# Altium footprint library BSPD_PcbLib.PcbLib: 22 footprints (part 1 of 2)
Each footprint in its own frame and in the unit in brackets; x right, y up, seen from the top. Pads: shape width x height; smd on the part's side, far side on the other; paste and mask are expansions set on the pad; w line width, h text height; cw(c..) or ccw(c..) is an arc to the next point about the centre after c.
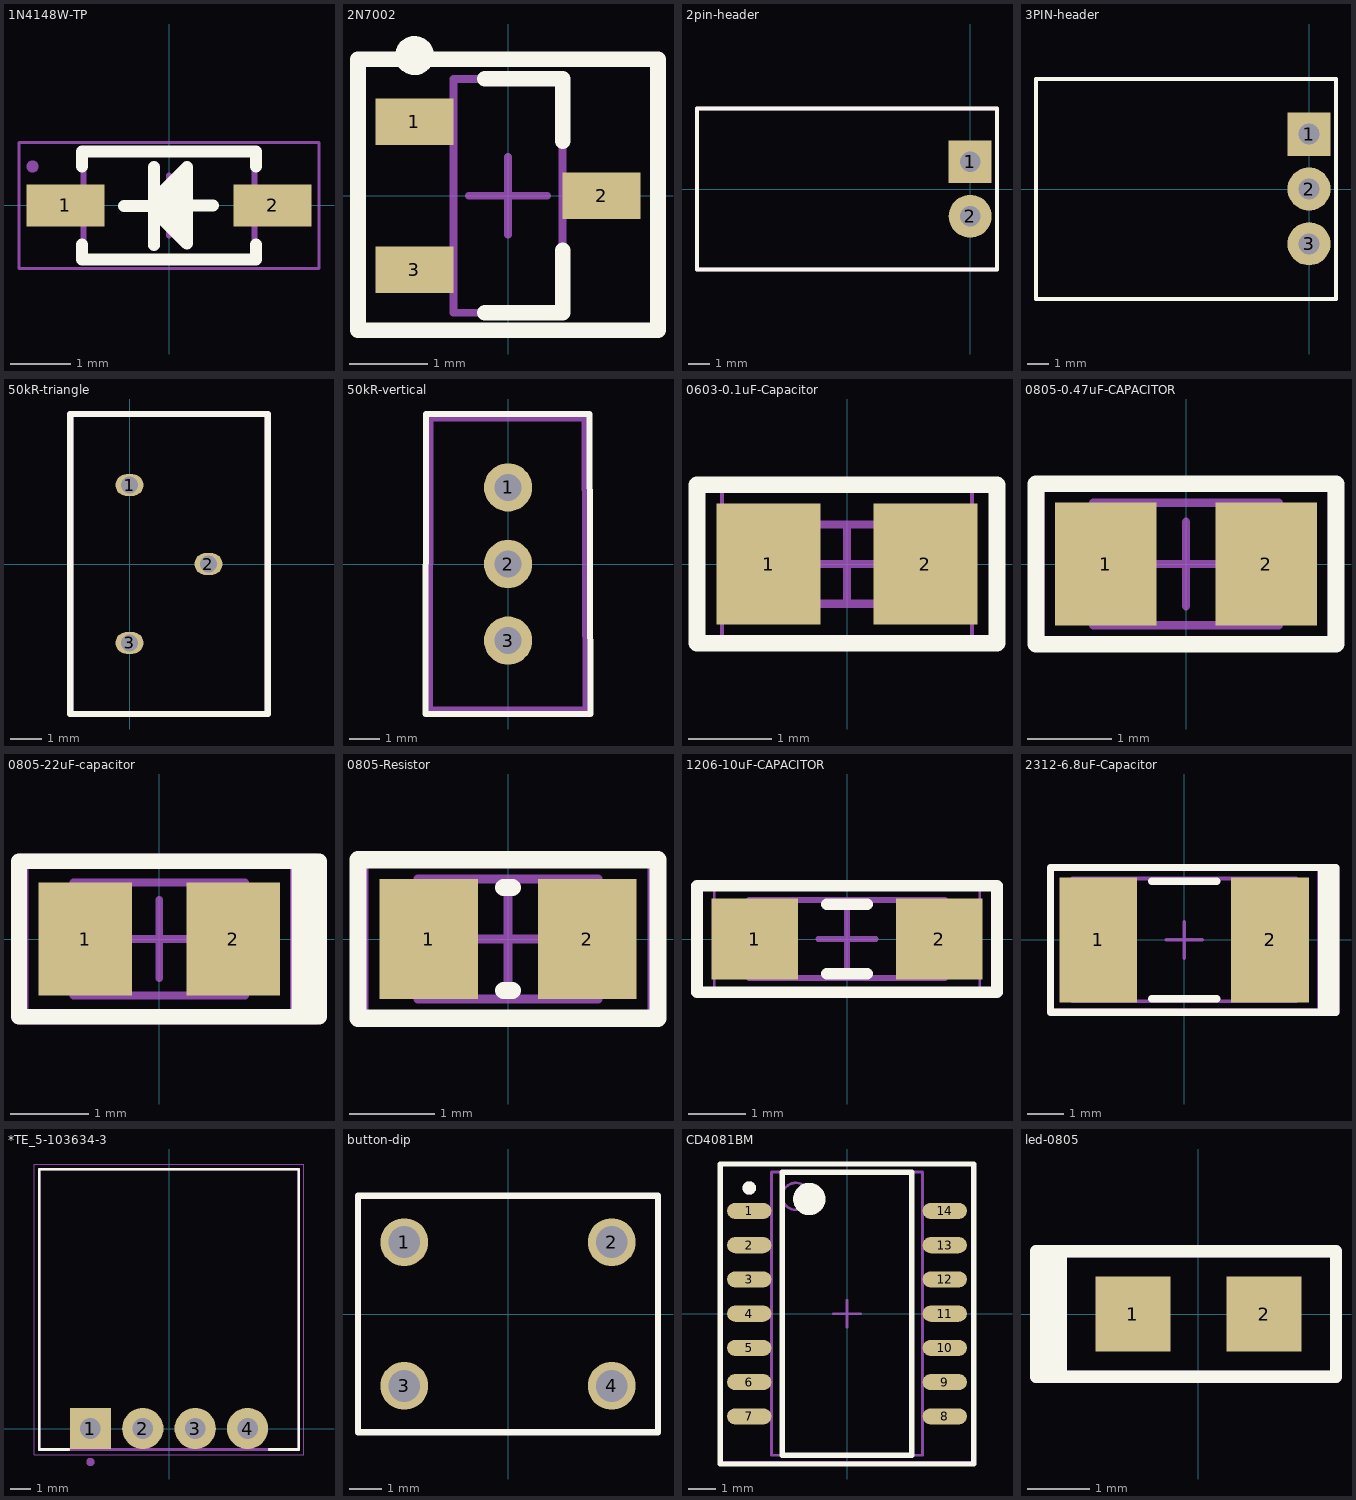
[diagram p0: the footprints below, top view; thin cyan lines are the x and y axes]

## 1N4148W-TP [mm] "SODFL, 2-Leads, Body 1.60x4.18mm, IPC Medium Density"
height 1.35
pads (2):
  rect 1.3x0.7 smd: 1(-1.725,0) 2(1.725,0)
Top Overlay:
  region: -0.4,1.6
  region: 0.3,-0.637 -0.25,-0.088 -0.25,0.088 0.3,0.638
  lines w0.2: -1.45,-0.65 -1.45,-0.9 1.45,-0.9 1.45,-0.65 ; -1.45,0.65 -1.45,0.9 1.45,0.9 1.45,0.65 ; -0.75,-0.012 -0.25,-0.012 ; -0.25,-0.663 -0.25,0.638 ; 0.3,0 0.737,0 ; -0.25,-0.012 -0.25,0.088 0.3,0.638 0.3,-0.637 -0.25,-0.088 -0.25,-0.012
Assembly Top:
  lines w0.1: -1.425,-0.9 1.425,-0.9 1.425,0.9 -1.425,0.9 -1.425,-0.9
Courtyard Top:
  lines w0.05: -2.5,-1.05 2.5,-1.05 2.5,1.05 -2.5,1.05 -2.5,-1.05
  lines w0.1: -0.5,0 0.5,0 ; 0,-0.5 0,0.5
Mechanical 29 (Mech29):
  circle w0.1: c-2.275,0.65 r0.05
  lines w0.05: -2.5,-1.05 -2.5,1.05 2.5,1.05 2.5,-1.05 -2.5,-1.05
  text "'.Designator'" at -2.413,-0.381 h0.7
3D body "1N4148W-TP.step": height 1.35, standoff 0, extent -2.087,-0.9 2.087,0.9

## 2N7002 [mm] "SOT23, 3-Leads, Body 2.90x2.45mm, Pitch 0.95mm, IPC Medium Density"
height 1.1
pads (3):
  rect 1x0.6 smd: 1(-1.2,0.95) 2(1.2,0) 3(-1.2,-0.95)
Top Overlay:
  circle w0.25: c-1.2,1.8 r0.125
  lines w0.2: -0.3,-1.5 0.7,-1.5 0.7,-0.7 ; -0.3,1.5 0.7,1.5 0.7,0.7 ; -1.925,-1.725 1.925,-1.725 1.925,1.75 -1.925,1.75 -1.925,-1.725
Assembly Top:
  lines w0.1: -0.7,-1.5 -0.7,1.5 0.7,1.5 0.7,-1.5 -0.7,-1.5
Courtyard Top:
  lines w0.05: -1.925,-1.75 -1.925,1.75 1.925,1.75 1.925,-1.75 -1.925,-1.75
  lines w0.1: -0.5,0 0.5,0 ; 0,-0.5 0,0.5
3D body "2N7002.step": height 1.1, standoff 0, extent -1.3,-1.5 1.3,1.5

## 2pin-header [mm]
pads (2):
  rect 2x2 hole 0.97: 1(0,1.27)
  round 2 hole 0.97: 2(0,-1.27)
Top Overlay:
  lines w0.2: -12.725,-3.75 1.25,-3.75 1.25,3.75 -12.725,3.75 -12.725,-3.75
Mechanical 29 (Mech29):
  lines w0.2: -12.725,-3.75 -12.725,3.75 1.25,3.75 1.25,-3.75 -12.725,-3.75
  text "'.Designator'" at -9,-0.3 h0.7
3D body "31507.stp": height 7, standoff -3.29, extent -12.625,-3.81 0.964,3.81

## 3PIN-header [mm]
pads (3):
  rect 2x2 hole 0.97: 1(0,2.54)
  round 2 hole 0.97: 2(0,0) 3(0,-2.54)
Top Overlay:
  lines w0.2: 1.25,5.075 1.25,3.575 1.25,-0.125 1.25,-3.125 1.25,-5.1 -12.65,-5.1 -12.65,5.1 1.25,5.1
Mechanical 29 (Mech29):
  lines w0.2: -12.65,-5.1 1.25,-5.1 1.25,-2.85 1.25,0.15 1.25,3.85 1.25,4.825 1.25,5.1 -12.65,5.1 -12.65,-5.1
  text "'.Designator'" at -9.7,-0.2 h0.7
3D body: height 4.44, standoff -0.38, extent -14.15,-3.05 -14.15,-3.05
3D body "31508.SLDPRT": height 7, standoff -3.29, extent -12.614,-5.03 0.975,5.13

## 50kR-triangle [mm]
pads (3):
  oval 0.9x0.7 hole 0.55: 1(0,2.54) 2(2.54,0) 3(0,-2.54)
Top Overlay:
  lines w0.2: -1.905,-4.826 -1.905,-4.445 -1.905,-2.54 -1.905,2.54 -1.905,4.445 -1.905,4.826 4.445,4.826 4.445,4.445 4.445,2.54 4.445,-2.54 4.445,-4.445 4.445,-4.826 -1.905,-4.826
Mechanical 29 (Mech29):
  lines w0.2: -1.905,-4.826 4.445,-4.826 4.445,-4.445 4.445,-2.54 4.445,2.54 4.445,4.445 4.445,4.826 -1.905,4.826 -1.905,4.445 -1.905,2.54 -1.905,-2.54 -1.905,-4.445 -1.905,-4.826
  text "'.Designator'" at -1.5,-0.2 h0.7
3D body: height 1.75, standoff 0, extent 0,0 0,0
3D body "3299Y.stp": height 11.06, standoff -6.72, extent -1.905,-4.762 4.2,4.762

## 50kR-vertical [mm]
pads (3):
  round 1.6 hole 0.9: 1(0,2.54) 2(0,0) 3(0,-2.54)
Top Overlay:
  lines w0.2: -2.732,-4.975 2.727,-4.975 2.701,4.975 -2.722,4.975 -2.732,-4.975
Mechanical 29 (Mech29):
  lines w0.2: -2.582,-4.826 -2.572,4.826 2.543,4.826 2.568,-4.826 -2.582,-4.826
  text "'.Designator'" at -2.25,-0.275 h0.7
3D body "3296W.STEP": height 11.57, standoff -6.39, extent -2.432,-4.775 2.406,4.75
3D body: height 1.75, standoff 0, extent 0,0 0,0

## 0603-0.1uF-Capacitor [mm] "Chip Capacitor, 2-Leads, Body 1.60x0.85mm, IPC Medium Density"
height 0.95
pads (2):
  rect 1.25x1.45 smd: 1(-0.94,0) 2(0.94,0)
Top Overlay:
  lines w0.2: -1.8,-0.95 1.8,-0.95 1.8,0.95 -1.8,0.95 -1.8,-0.95
Assembly Top:
  lines w0.1: -0.885,-0.475 0.885,-0.475 0.885,0.475 -0.885,0.475 -0.885,-0.475
Courtyard Top:
  lines w0.05: -1.5,-0.95 1.5,-0.95 1.5,0.925 -1.5,0.925 -1.5,-0.95
  lines w0.1: -0.475,0 0.475,0 ; 0,-0.475 0,0.475
Mechanical 29 (Mech29):
  lines w0.05: -1.5,-0.95 -1.5,0.925 1.5,0.925 1.5,-0.95 -1.5,-0.95
  text "'.Designator'" at -1.275,-0.325 h0.7
3D body "0603-0.1uF-Capacitor.step": height 0.95, standoff 0, extent -0.885,-0.475 0.885,0.475

## 0805-0.47uF-CAPACITOR [mm] "Chip Capacitor, 2-Leads, Body 2.00x1.25mm, IPC Medium Density"
height 1.1
pads (2):
  rect 1.2x1.45 smd: 1(-0.95,0) 2(0.95,0)
Top Overlay:
  lines w0.2: -1.775,-0.95 1.775,-0.95 1.775,0.95 -1.775,0.95 -1.775,-0.95
Assembly Top:
  lines w0.1: -1.1,-0.725 1.1,-0.725 1.1,0.725 -1.1,0.725 -1.1,-0.725
Courtyard Top:
  lines w0.05: -1.7,-1 1.7,-1 1.7,1 -1.7,1 -1.7,-1
  lines w0.1: -0.5,0 0.5,0 ; 0,-0.5 0,0.5
Mechanical 29 (Mech29):
  lines w0.05: -1.7,-1 1.7,-1 1.7,1 -1.7,1 -1.7,-1
  text "'.Designator'" at -1.575,-0.325 h0.7
3D body "CAPC2012X11N.step": height 1.1, standoff 0, extent -1.1,-0.725 1.1,0.725

## 0805-22uF-capacitor [mm] "Chip Capacitor, 2-Leads, Body 2.00x1.25mm, IPC Medium Density"
height 1.25
pads (2):
  rect 1.2x1.45 smd: 1(-0.95,0) 2(0.95,0)
Top Overlay:
  rectangle: 1.7,-1 2,1
  lines w0.2: -1.8,-1 -1.8,1 2.05,1 2.05,-1 -1.8,-1
Assembly Top:
  lines w0.1: -1.1,-0.725 -1.1,0.725 1.1,0.725 1.1,-0.725 -1.1,-0.725
Courtyard Top:
  lines w0.05: -1.7,-1 -1.7,1 1.7,1 1.7,-1 -1.7,-1
  lines w0.1: -0.5,0 0.5,0 ; 0,-0.5 0,0.5
Mechanical 29 (Mech29):
  rectangle: 1.7,-1 2,1
  lines w0.2: -1.775,-1 2,-1 2,1 -1.775,1 -1.775,-1
  text "'.Designator'" at -1.55,-0.475 h1
3D body "0805-22uF-capacitor.step": height 1.25, standoff 0, extent -1.1,-0.725 1.1,0.725

## 0805-Resistor [mm] "Chip Resistor, 2-Leads, Body 2.00x1.25mm, IPC Medium Density"
height 0.6
pads (2):
  rect 1.15x1.4 smd: 1(-0.925,0) 2(0.925,0)
Top Overlay:
  lines w0.2: -0.05,-0.6 0.05,-0.6 ; -0.05,0.6 0.05,0.6 ; -1.75,-0.925 -1.75,0.925 1.75,0.925 1.75,-0.925 -1.75,-0.925
Assembly Top:
  lines w0.1: -1.05,-0.7 -1.05,0.7 1.05,0.7 1.05,-0.7 -1.05,-0.7
Courtyard Top:
  lines w0.05: -1.65,-0.95 -1.65,0.95 1.65,0.95 1.65,-0.95 -1.65,-0.95
  lines w0.1: -0.5,0 0.5,0 ; 0,-0.5 0,0.5
Mechanical 29 (Mech29):
  lines w0.05: -1.65,-0.95 1.65,-0.95 1.65,0.95 -1.65,0.95 -1.65,-0.95
  text "'.Designator'" at -1.524,-0.381 h0.7
3D body "0805-Resistor.step": height 0.6, standoff 0, extent -1.05,-0.7 1.05,0.7

## 1206-10uF-CAPACITOR [mm] "Chip Capacitor, 2-Leads, Body 3.20x1.25mm, IPC Medium Density"
height 1.6
pads (2):
  rect 1.5x1.4 smd: 1(-1.6,0) 2(1.6,0)
Top Overlay:
  lines w0.2: -0.35,-0.6 0.35,-0.6 ; -0.35,0.6 0.35,0.6 ; -2.6,-0.925 2.6,-0.925 2.6,0.925 -2.6,0.925 -2.6,-0.925
Assembly Top:
  lines w0.1: -1.7,-0.675 -1.7,0.675 1.7,0.675 1.7,-0.675 -1.7,-0.675
Courtyard Top:
  lines w0.05: -2.3,-0.95 -2.3,0.95 2.3,0.95 2.3,-0.95 -2.3,-0.95
  lines w0.1: -0.5,0 0.5,0 ; 0,-0.5 0,0.5
Mechanical 29 (Mech29):
  lines w0.05: -2.3,-0.95 2.3,-0.95 2.3,0.95 -2.3,0.95 -2.3,-0.95
  text "'.Designator'" at -2.2,-0.3 h0.7
3D body "1206-10uF-CAPACITOR.step": height 1.6, standoff 0, extent -1.7,-0.675 1.7,0.675

## 2312-6.8uF-Capacitor [mm] "Chip Capacitor, 2-Leads, Body 6.00x3.25mm, IPC Medium Density"
height 2.8
pads (2):
  rect 2.15x3.45 smd: 1(-2.375,0) 2(2.375,0)
Top Overlay:
  circle w0.1: c3.7,2 r0.05
  rectangle: 3.7,-2 4.2,2
  lines w0.2: -0.9,-1.625 0.9,-1.625 ; -0.9,1.625 0.9,1.625 ; -3.7,-2 -3.7,2 4.2,2 4.2,-2 -3.7,-2
Assembly Top:
  lines w0.1: -3.1,-1.7 -3.1,1.7 3.1,1.7 3.1,-1.7 -3.1,-1.7
Courtyard Top:
  lines w0.05: -3.7,-2 -3.7,2 3.7,2 3.7,-2 -3.7,-2
  lines w0.1: -0.5,0 0.5,0 ; 0,-0.5 0,0.5
Mechanical 29 (Mech29):
  rectangle: 3.7,-2 4.2,2
  lines w0.2: -3.7,-2 4.2,-2 4.2,2 -3.7,2 -3.7,-2
  text "'.Designator'" at -3.556,-0.254 h0.7
3D body "2312-6.8uF-Capacitor.step": height 2.8, standoff 0, extent -3.1,-1.7 3.1,1.7

## *TE_5-103634-3 [mm]
pads (4):
  rect 2x2 hole 1: 1(-3.81,0)
  round 2 hole 1: 2(-1.27,0) 3(1.27,0) 4(3.81,0)
Top Overlay:
  lines w0.127: -4.866,-1.02 -6.29,-1.02 -6.29,12.57 6.29,12.57 6.29,-1.02 4.866,-1.02
Courtyard Top:
  circle w0.2: c-3.81,-1.62 r0.1
  circle w0.2: c-3.81,-1.62 r0.1
  lines w0.127: -6.29,-1.02 6.29,-1.02 ; -6.29,-1.02 -6.29,12.57 ; -6.29,-1.02 6.29,-1.02 ; -6.29,-1.02 -6.29,12.57 ; -6.29,12.57 6.29,12.57 ; -6.29,12.57 6.29,12.57 ; 6.29,-1.02 6.29,12.57 ; 6.29,-1.02 6.29,12.57
Mechanical 16:
  lines w0.05: -6.54,-1.27 -6.54,12.82 6.54,12.82 6.54,-1.27 -6.54,-1.27
Mechanical 29 (Mech29):
  circle w0.2: c-3.81,-1.62 r0.1
  lines w0.127: -4.866,-1.02 -6.29,-1.02 -6.29,12.57 6.29,12.57 6.29,-1.02 4.866,-1.02
Mechanical 30:
  text "'.Designator'" at 0,0 h1.54
3D body "31509.stp": height 7, standoff -3.29, extent -6.325,-0.994 6.375,12.594

## button-dip [mm]
pads (4):
  round 1.5 hole 1: 1(-3.25,2.25) 2(3.25,2.25) 3(-3.25,-2.25) 4(3.25,-2.25)
Top Overlay:
  lines w0.2: -4.7,-3.7 -4.7,3.7 4.7,3.7 4.7,-3.7 -4.7,-3.7

## CD4081BM [mm]
height 2
pads (14):
  oval 1.65x0.6 smd: 1(-3.625,3.81) 2(-3.625,2.54) 3(-3.625,1.27) 4(-3.625,0) 5(-3.625,-1.27) 6(-3.625,-2.54) 7(-3.625,-3.81) 8(3.625,-3.81) 9(3.625,-2.54) 10(3.625,-1.27) 11(3.625,0) 12(3.625,1.27) 13(3.625,2.54) 14(3.625,3.81)
Top Overlay:
  circle w0.25: c-3.625,4.66 r0.125
  circle w0.6: c-1.4,4.25 r0.3
  lines w0.2: -4.7,-5.575 -4.7,5.55 4.7,5.55 4.7,-5.575 -4.7,-5.575 ; -2.4,-5.25 -2.4,5.25 2.4,5.25 2.4,-5.25 -2.4,-5.25
Assembly Top:
  circle w0.1: c-1.9,4.35 r0.5
  lines w0.1: -2.8,-5.25 -2.8,5.25 2.8,5.25 2.8,-5.25 -2.8,-5.25
Courtyard Top:
  lines w0.05: -4.7,-5.5 -4.7,5.5 4.7,5.5 4.7,-5.5 -4.7,-5.5
  lines w0.1: -0.5,0 0.5,0 ; 0,-0.5 0,0.5
Mechanical 29 (Mech29):
  circle w0.25: c-3.625,4.66 r0.125
  lines w0.05: -4.7,-5.5 4.7,-5.5 4.7,5.5 -4.7,5.5 -4.7,-5.5
  text "'.Designator'" at -4.572,-0.254 h0.8
3D body "CD4081BM.step": height 2, standoff 0, extent -3.9,-5.25 3.9,5.25

## led-0805 [mm]
pads (2):
  rect 1.2x1.2 smd: 1(-1.05,0) 2(1.05,0)
Top Overlay:
  rectangle: -2.6,-1 -2.1,1
  lines w0.2: -2.6,-1 2.2,-1 2.2,1 -2.6,1 -2.6,-1
Mechanical 29 (Mech29):
  rectangle: -2.6,-1 -2.1,1
  lines w0.2: -2.6,-1 -2.6,1 2.2,1 2.2,-1 -2.6,-1
  text "'.Designator'" at -1.9,-0.3 h0.7
3D body "led-0805_rev1.stp": height 0.7, standoff 0, extent -1,-0.625 1,0.625